# EAGLE library part 74S64D (library EW_IC_74_Logic)
4-2-3-2 input AND-OR-INVERT gate. Category: Gates Manufacturer: Generic
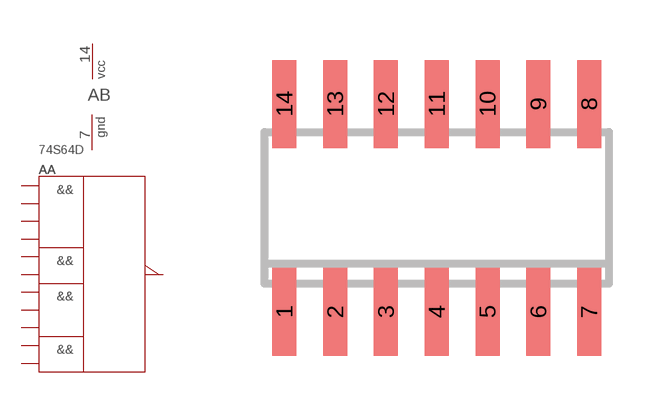
[diagram p0: symbol with the pads of SO14; footprint SO14]

Designator prefix A; gates A=7464_S_AND-OR-INVERT_GATE B=PWRN

## 74S64D  [SO14]
1  A:A  pwr
2  A:E  pwr
3  A:F  pwr
4  A:G  pwr
5  A:H  pwr
6  A:I  pwr
7  B:GND  pwr
8  A:Y  pwr
9  A:J  pwr
10  A:K  pwr
11  A:B  pwr
12  A:C  pwr
13  A:D  pwr
14  B:VCC  pwr

## Footprint SO14 (pad centres in mm)
SMALL OUTLINE INTEGRATED CIRCUIT body 3.9 mm/JEDEC MS-012AC
smd 0.6 x 2.2: 1 -3.81,-2.6; 2 -2.54,-2.6; 3 -1.27,-2.6; 4 0,-2.6; 5 1.27,-2.6; 6 2.54,-2.6; 7 3.81,-2.6; 8 3.81,2.6; 9 2.54,2.6; 10 1.27,2.6; 11 0,2.6; 12 -1.27,2.6; 13 -2.54,2.6; 14 -3.81,2.6